# Altium integrated library murata.IntLib: 3 symbols
Pins are listed as number, name and electrical type; pins without a type are passive.

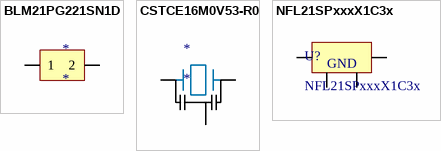
[diagram p0: symbols BLM21PG221SN1D to NFL21SPxxxX1C3x]

## BLM21PG221SN1D
designator *
footprint 0805
pins: 1, 2

## CSTCE16M0V53-R0
designator *
footprint CSTCE16M0V53-R0 (CER RESONATOR 16.0MHZ SMD)
pins: 1, 2, 3

## NFL21SPxxxX1C3x
designator U?
footprint NFL21SPxxxX1C3x (EMI Filter Circuits Pi Circuit for Signal Lines)
pins: 1, 2, 3, 4
text: GND